# Altium schematic symbol library LDO.schlib: 4 symbols
Pins are listed as number, name and electrical type; pins without a type are passive.

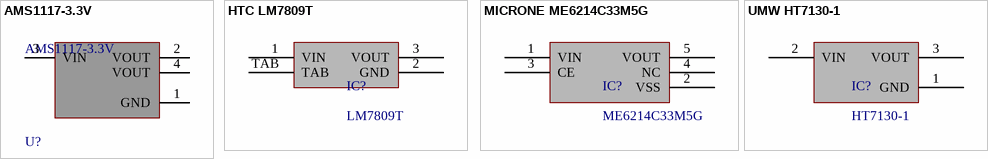
[diagram p0: symbols AMS1117-3.3V to UMW HT7130-1]

## AMS1117-3.3V
designator U?
IC REG LINEAR 3.3V 800mA; Manufacturer: Diodes; Obsolete Part: true; Manufacturer Part Number: AP1117E33G-13; Max Supply Voltage: 18V; Output Type: Fixed; Output Current: 1A; Number Of Outputs: 1; Min Supply Voltage: 6.4V; Dropout Voltage: 1.3V; Standoff Height: 0.01mm; Max Junction Temp: +125°C; Nominal Supply Current: 5mA; Octopart: https://octopart.com/ap1117e33g-13-diodes+inc.-669494; RoHS: TRUE; Package: SOT223; Lead Free: Yes; Height: 1.8mm; Digikey Description: IC REG LINEAR 3.3V 1A SOT223-3; Device Class L3: Voltage Regulators - Linear; Device Class L1: Integrated Circuits (ICs); Temperature: -20°C to +125°C; Temperature Range Low: -20°C; Automotive: No; Ipc Land Pattern Name: SOT230P700X180-4; Footprint Url: https://www.diodes.com/assets/Package-Files/SOT223.pdf; Mouser Description: LDO Voltage Regulators LDO BI 1.0A 1.3V 12V 5.0V 3.3V FIX; Temperature Range High: +125°C; Device Class L2: Power Management ICs; Output Voltage: 3.3V; Category: IC
footprint SOT223
pins: 1 GND (power), 2 VOUT (power), 3 VIN (power), 4 VOUT (power)

## HTC LM7809T
designator IC?, comment LM7809T
footprint HTC TO-220 flat
footprint HTC TO-220 flat - no hole
pins: 1 VIN, 2 GND, 3 VOUT, TAB

## MICRONE ME6214C33M5G
designator IC?, comment ME6214C33M5G
footprint MICRONE SOT-23-5
pins: 1 VIN, 2 VSS, 3 CE, 4 NC, 5 VOUT

## UMW HT7130-1
designator IC?, comment HT7130-1
HOLTEK   HT7130-1-SOT89TRLF   Fixed LDO Voltage Regulator, 4V to 24V, 100mV Dropout, 3Vout, 30mAout, SOT-89-3; Supplier: Newark; Supplier Part Number: 53M7841; Manufacturer: Holtek; Manufacturer Part Number: HT7130-1-SOT89TRLF; RoHS: Yes; Category: Voltage Regulators - Linear; Stock: 2; Pricing: 1=0,143, 10=0,143, 25=0,143, 50=0,143, 100=0,143, 250=0,143, 500=0,143, 1000=0,143 (USD); ComponentLink1URL: https://datasheet.ciiva.com/1511/79203-1511505.pdf?src-supplier=Element14; ComponentLink1Description: https://datasheet.ciiva.com/1511/79203-1511505.pdf?src-supplier=Element14
footprint UMW SOT89-3 (SOT89, 3-Leads, Body 4,50x2,45mm, Pitch 1,50mm, Lead Span 4,1mm, IPC Medium Density)
pins: 1 GND, 2 VIN, 3 VOUT